# Altium footprint library Battery_Voltage.PcbLib: 1 footprints
Each footprint in its own frame and in the unit in brackets; x right, y up, seen from the top. Pads: shape width x height; smd on the part's side, far side on the other; paste and mask are expansions set on the pad; w line width, h text height; cw(c..) or ccw(c..) is an arc to the next point about the centre after c.
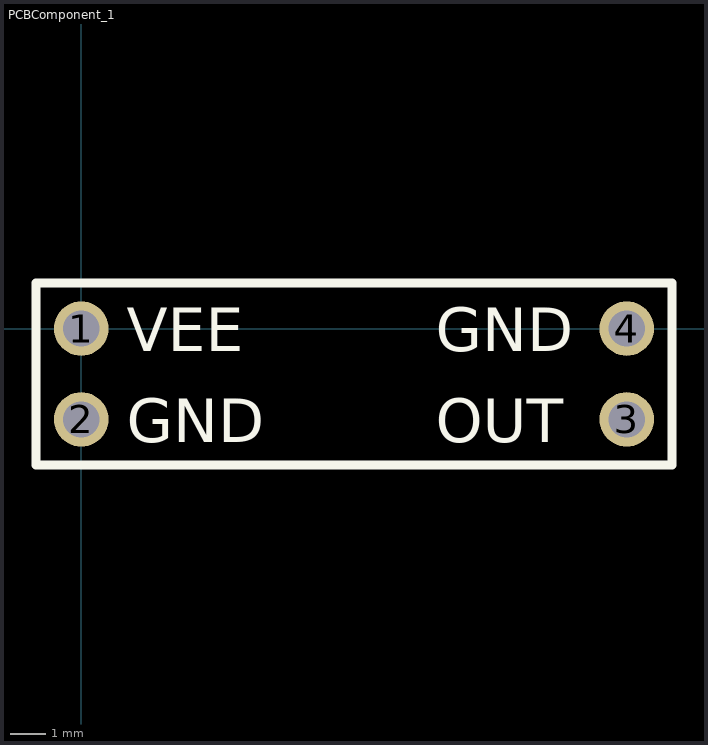
[diagram p0: the footprint, top view; thin cyan lines are the x and y axes]

## PCBComponent_1 [mil]
pads (4):
  round 60 hole 40: 1(0,0) 2(0,-100) 3(600,-100) 4(600,0)
Top Overlay:
  lines w10: -50,-150 650,-150 650,50 -50,50 -50,-150
  text "VEE" at 50,-25 h48
  text "GND" at 50,-125 h48
  text "OUT" at 390,-125 h48
  text "GND" at 390,-25 h48